# Altium schematic symbol library WE-MAPI_2508.SchLib: 3 symbols
Pins are listed as number, name and electrical type; pins without a type are passive.

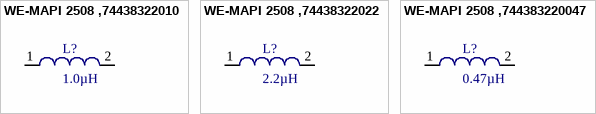
[diagram p0: symbols WE-MAPI 2508 ,74438322010 to WE-MAPI 2508 ,744383220047]

## WE-MAPI 2508 ,74438322010
designator L?, comment 1.0µH
Power Multilayer Inductor WE-MAPI, L=1.0µH; partNo: 74438322010; Manufacturer: Würth Elektronik eiSos GmbH; Inductance: 1.0µH; ComponentLink1Description: Manufacturer; ComponentLink1URL: http://www.we-online.de; Created by: Otto Christin; Created Date: Nov 2013; ComponentLink2Description: Datasheet; ComponentLink2URL: http://katalog.we-online.de/kataloge/eisos/media/pdf/74438322010.pdf
footprint WE-MAPI 2508 (Chip Inductor, 2-Leads, Body 2.5x2.0mm, IPC Medium Density)
pins: 1, 2

## WE-MAPI 2508 ,74438322022
designator L?, comment 2.2µH
Power Multilayer Inductor WE-MAPI, L=2.2µH; partNo: 74438322022; Manufacturer: Würth Elektronik eiSos GmbH; Inductance: 2.2µH; ComponentLink1Description: Manufacturer; ComponentLink1URL: http://www.we-online.de; Created by: Otto Christin; Created Date: Nov 2013; ComponentLink2Description: Datasheet; ComponentLink2URL: http://katalog.we-online.de/kataloge/eisos/media/pdf/74438322022.pdf
footprint WE-MAPI 2508 (Chip Inductor, 2-Leads, Body 2.5x2.0mm, IPC Medium Density)
pins: 1, 2

## WE-MAPI 2508 ,744383220047
designator L?, comment 0.47µH
Power Multilayer Inductor WE-MAPI, L=0.47µH; partNo: 744383220047; Manufacturer: Würth Elektronik eiSos GmbH; Inductance: 0.47µH; ComponentLink1Description: Manufacturer; ComponentLink1URL: http://www.we-online.de; Created by: Otto Christin; Created Date: Nov 2013; ComponentLink2Description: Datasheet; ComponentLink2URL: http://katalog.we-online.de/kataloge/eisos/media/pdf/744383220047.pdf
footprint WE-MAPI 2508 (Chip Inductor, 2-Leads, Body 2.5x2.0mm, IPC Medium Density)
pins: 1, 2